# Altium footprint library SOIC-8-W_401.14-4 short version.PcbLib: 1 footprints
Each footprint in its own frame and in the unit in brackets; x right, y up, seen from the top. Pads: shape width x height; smd on the part's side, far side on the other; paste and mask are expansions set on the pad; w line width, h text height; cw(c..) or ccw(c..) is an arc to the next point about the centre after c.
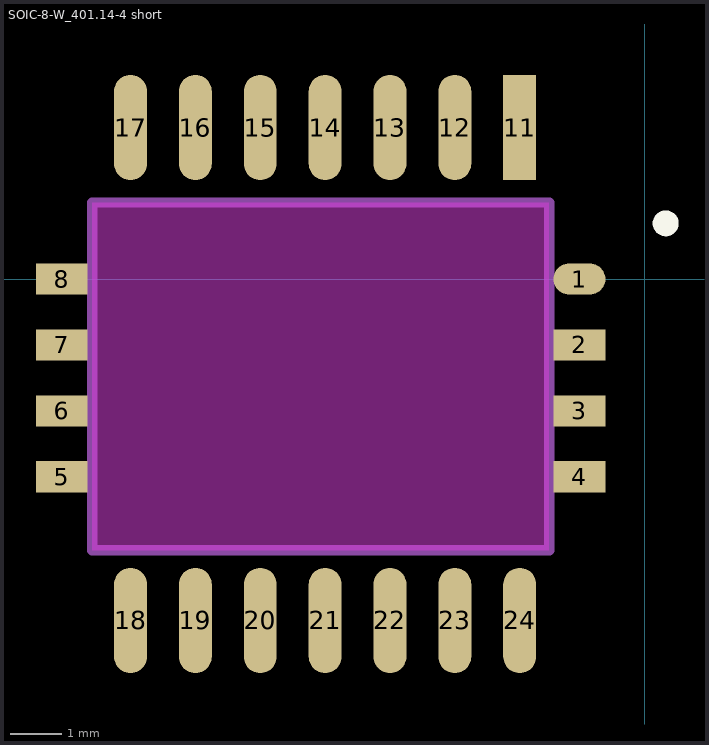
[diagram p0: the footprint, top view; thin cyan lines are the x and y axes]

## SOIC-8-W_401.14-4 short [mil]
pads (22):
  oval 39.37x23.62 smd: 1(-49.69,0)
  rect 39.37x23.62 smd: 2(-49.69,-50) 3(-49.69,-100) 4(-49.69,-150) 5(-442.44,-150) 6(-442.44,-100) 7(-442.44,-50) 8(-442.44,0)
  rect 25x80 smd: 11(-95,115)
  oval 25x80 smd: 12(-144.21,115) 13(-193.43,115) 14(-242.64,115) 15(-291.85,115) 16(-341.06,115) 17(-390.28,115) 18(-390.28,-259.02) 19(-341.06,-259.02) 20(-291.85,-259.02) 21(-242.64,-259.02) 22(-193.43,-259.02) 23(-144.21,-259.02) 24(-95,-259.02)
Top Overlay:
  circle w9.84: c15.75,42.32 r4.92
Keep-Out Layer:
  board cut-out: -419.29,58.07 -72.83,58.07 -72.83,-205.71 -419.29,-205.71
Mechanical 1:
  lines w7.87: -419.29,-205.71 -72.83,-205.71 ; -419.29,58.07 -72.83,58.07 ; -419.25,-205.71 -419.25,58.07 ; -72.72,-205.71 -72.72,58.07
3D body "Wide SOIC-8.step": height 4, standoff -106.24, extent -472.44,-193.11 -19.68,43.11
3D body "401_14-5.step": height 55.12, standoff 0, extent -439.48,-267.39 -45.78,122.38